# EAGLE library part WM-C2002M-DISP (library custom)
PIN HEADER
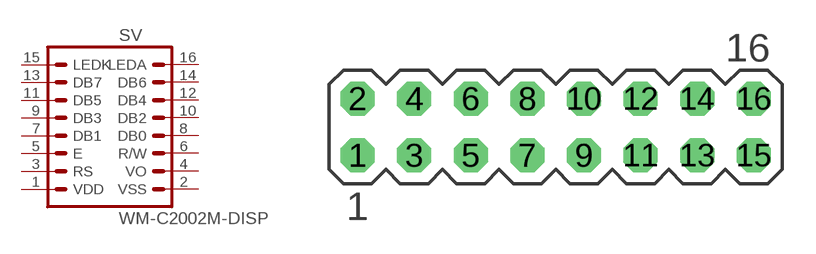
[diagram p7: symbol with the pads of MA08-2; footprint MA08-2]

Designator prefix SV

## WM-C2002M-DISP  [MA08-2]
1  VDD  pas
2  VSS  pas
3  RS  pas
4  VO  pas
5  E  pas
6  R/W  pas
7  DB1  pas
8  DB0  pas
9  DB3  pas
10  DB2  pas
11  DB5  pas
12  DB4  pas
13  DB7  pas
14  DB6  pas
15  LEDK  pas
16  LEDA  pas

## Footprint MA08-2 (pad centres in mm)
PIN HEADER
drill 1.016 octagon: 1 -8.89,-1.27; 2 -8.89,1.27; 3 -6.35,-1.27; 4 -6.35,1.27; 5 -3.81,-1.27; 6 -3.81,1.27; 7 -1.27,-1.27; 8 -1.27,1.27; 9 1.27,-1.27; 10 1.27,1.27; 11 3.81,-1.27; 12 3.81,1.27; 13 6.35,-1.27; 14 6.35,1.27; 15 8.89,-1.27; 16 8.89,1.27